# Altium schematic symbol library BMS.SchLib: 5 symbols
Pins are listed as number, name and electrical type; pins without a type are passive.

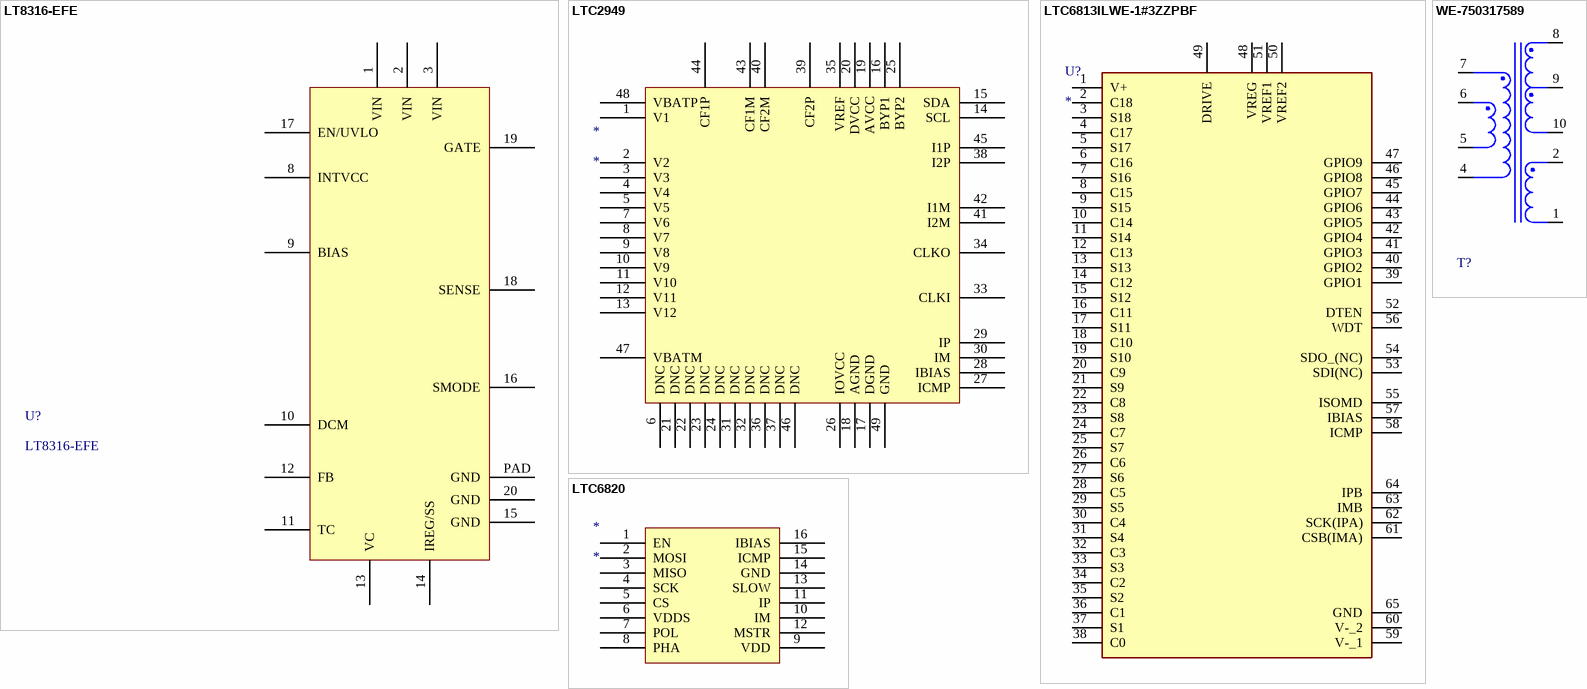
[diagram p0: symbols LT8316-EFE to WE-750317589]

## LT8316-EFE
designator U?
600VIN MICROPOWER, ISOLATED NO-O; Manufacturer: Analog Devices; Manufacturer Part Number: LT8316EFE; Supplier: Digikey; Supplier Part Number: LT8316EFE#PBF-ND
footprint LTC8315/8316 (TSOP, 20-Leads, Body 6.50x4.40mm, Pitch 0.65mm, Thermal Pad 5.68x1.78mm, IPC Medium Density)
pins: 1 VIN, 2 VIN, 3 VIN, 8 INTVCC, 9 BIAS, 10 DCM, 11 TC, 12 FB, 13 VC, 14 IREG/SS, 15 GND, 16 SMODE, 17 EN/UVLO, 18 SENSE, 19 GATE, 20 GND, PAD GND

## LTC2949
designator *
Manufacturer: Analog Devices; Manufacturer Part Number: LTC2949ILXE#3ZZPBF; Supplier: Mouser; Supplier Part Number: 584-2949ILXE3ZZPBF
footprint LTC2949 (LQFP, 48-Leads, IPC Medium Density)
pins: 1 V1, 2 V2, 3 V3, 4 V4, 5 V5, 6 DNC, 7 V6, 8 V7, 9 V8, 10 V9, 11 V10, 12 V11, 13 V12, 14 SCL, 15 SDA, 16 BYP1 (power), 17 DGND (power), 18 AGND (power), 19 AVCC (power), 20 DVCC (power), 21 DNC, 22 DNC, 23 DNC, 24 DNC, 25 BYP2 (power), 26 IOVCC (power), 27 ICMP, 28 IBIAS, 29 IP, 30 IM, 31 DNC, 32 DNC, 33 CLKI, 34 CLKO, 35 VREF (power), 36 DNC, 37 DNC, 38 I2P, 39 CF2P, 40 CF2M, 41 I2M, 42 I1M, 43 CF1M, 44 CF1P, 45 I1P, 46 DNC, 47 VBATM, 48 VBATP, 49 GND (power)

## LTC6813ILWE-1#3ZZPBF
designator U?
18-Cell Battery Monitor with Daisy Chain Interface; Manufacturer: Analog Devices; Manufacturer Part Number: LTC6813ILWE-1#3ZZPBF; Supplier Part Number: 584-6813ILWE13ZZPBF; Supplier: Mouser
footprint QFP50P1200X1200X120-65N
pins: 1 V+, 2 C18, 3 S18, 4 C17, 5 S17, 6 C16, 7 S16, 8 C15, 9 S15, 10 C14, 11 S14, 12 C13, 13 S13, 14 C12, 15 S12, 16 C11, 17 S11, 18 C10, 19 S10, 20 C9, 21 S9, 22 C8, 23 S8, 24 C7, 25 S7, 26 C6, 27 S6, 28 C5, 29 S5, 30 C4, 31 S4, 32 C3, 33 S3, 34 C2, 35 S2, 36 C1, 37 S1, 38 C0, 39 GPIO1, 40 GPIO2, 41 GPIO3, 42 GPIO4, 43 GPIO5, 44 GPIO6, 45 GPIO7, 46 GPIO8, 47 GPIO9, 48 VREG, 49 DRIVE, 50 VREF2, 51 VREF1, 52 DTEN, 53 SDI(NC), 54 SDO_(NC), 55 ISOMD, 56 WDT, 57 IBIAS, 58 ICMP, 59 V-_1, 60 V-_2, 61 CSB(IMA), 62 SCK(IPA), 63 IMB, 64 IPB, 65 GND

## LTC6820
designator *
Manufacturer: Analog Devices; Manufacturer Part Number: LTC6820IMS#TRPBF; Supplier: Digikey; Supplier Part Number: LTC6820IMS#TRPBFCT-ND
footprint LTC6820
pins: 1 EN, 2 MOSI, 3 MISO, 4 SCK, 5 CS, 6 VDDS, 7 POL, 8 PHA, 9 VDD, 10 IM, 11 IP, 12 MSTR, 13 SLOW, 14 GND, 15 ICMP, 16 IBIAS

## WE-750317589
designator T?, comment 7508112332  (value not drawn)
100-600V Flyback Transformer; Manufacturer: Wurth; Manufacturer Part Number: WE-750317589; Supplier: Wurth; Supplier Part Number: WE-750317589
footprint WE-750317589 (FLYBACK TRANSFORMER)
pins: 1, 2, 4, 5, 6, 7, 8, 9, 10